# Altium footprint library 2108877_1.PcbLib: 1 footprints
Each footprint in its own frame and in the unit in brackets; x right, y up, seen from the top. Pads: shape width x height; smd on the part's side, far side on the other; paste and mask are expansions set on the pad; w line width, h text height; cw(c..) or ccw(c..) is an arc to the next point about the centre after c.
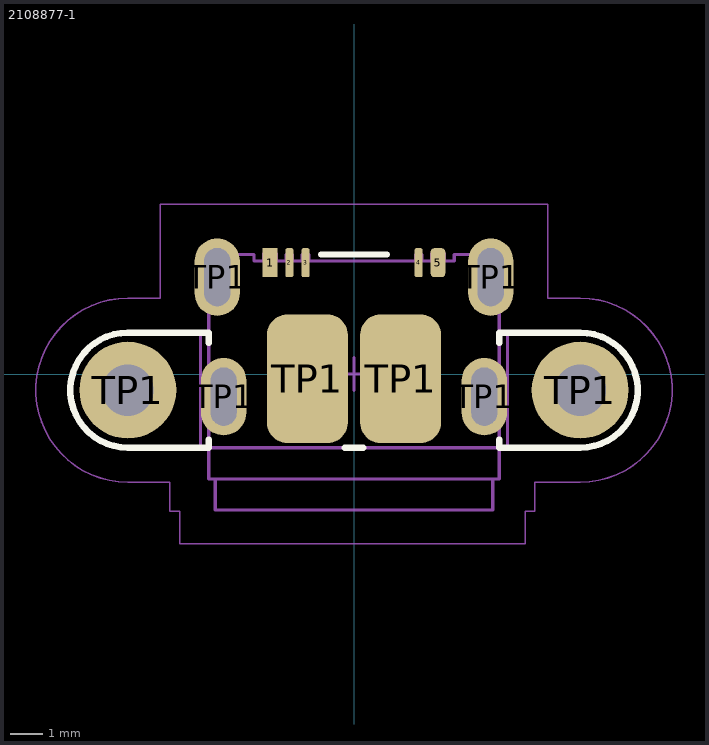
[diagram p0: the footprint, top view; thin cyan lines are the x and y axes]

## 2108877-1 [mm] "Micro USB 2.0 Type B R/A Type"
height 3.4
pads (13):
  rect 0.45x0.9 smd: 1(-2.6,3.446)
  rrect50% 0.25x0.9 smd: 2(-2,3.446) 3(-1.5,3.446) 4(2,3.446)
  rrect50% 0.45x0.9 smd: 5(2.6,3.446)
  round 3 hole 1.6: TP1(-7,-0.5) TP1(7,-0.5)
  oval 1.4x2.4 hole 0.8 slot 1.8 at 90 deg: TP1(-4.235,3) TP1(-4.035,-0.7) TP1(4.035,-0.7) TP1(4.235,3)
  rrect50% 2.5x3.98 smd: TP1(-1.441,-0.146) TP1(1.441,-0.146)
Top Overlay:
  lines w0.2: -4.496,-2.028 -4.496,-2.282 ; -4.496,0.96 -4.496,1.282 -7,1.282 ccw(c-7,-0.5) -7,-2.282 -4.496,-2.282 ; -1.016,3.7 0,3.7 1.016,3.7 ; -0.279,-2.282 0,-2.282 0.279,-2.282 ; 4.496,-2.028 4.496,-2.282 ; 4.496,0.96 4.496,1.282 7,1.282 cw(c7,-0.5) 7,-2.282 4.496,-2.282 ; -4.496,-2.282 -4.496,-2.282 ; 4.496,-2.282 4.496,-2.282
Mechanical 7:
  text ".Comment" at 1.097,5.43 h1.2
Top Designator:
  text ".Designator" at -0.3,5.43 h1.2
Top Component Outline:
  circle w0.1: c-7,-0.5 r0.8
  circle w0.1: c7,-0.5 r0.8
  lines w0.1: -4.75,-2.282 -4.75,1.282 ; -4.295,-3.247 -4.295,-4.212 4.295,-4.212 4.295,-3.247 ; -2.8,3.5 -2.8,3.725 -2.4,3.725 -2.4,3.5 ; -2.1,3.5 -2.1,3.7 -1.9,3.7 -1.9,3.5 ; -1.6,3.5 -1.6,3.7 -1.4,3.7 -1.4,3.5 ; 1.9,3.5 1.9,3.7 2.1,3.7 2.1,3.5 ; 2.4,3.5 2.4,3.725 2.8,3.725 2.8,3.5 ; 4.75,-2.282 4.75,1.282 ; -4.496,1.282 -4.496,-3.247 4.496,-3.247 4.496,1.282 ; -4.496,1.282 -4.496,3.7 -3.1,3.7 -3.1,3.5 0,3.5 3.1,3.5 3.1,3.7 4.496,3.7 4.496,1.282 ; -4.496,1.282 -7,1.282 ccw(c-7,-0.5) -7,-2.282 7,-2.282 ccw(c7,-0.5) 7,1.282 4.496,1.282 ; 4.496,-2.282 4.496,-2.282 ; 4.496,-2.282 4.496,-2.282
Top Courtyard:
  lines w0.05: -7,-3.35 cw(c-7,-0.5) -7,2.35 -6,2.35 -6,5.25 6,5.25 6,2.35 7,2.35 cw(c7,-0.5) 7,-3.35 5.6,-3.35 5.6,-4.25 5.3,-4.25 5.3,-5.25 -5.4,-5.25 -5.4,-4.25 -5.7,-4.25 -5.7,-3.35 -7,-3.35
  lines w0.1: -0.5,0 0.5,0 ; 0,-0.5 0,0.5
3D body "2108877-1-b-3d(micro usb-b flanged).stp": height 3.39, standoff -0.64, extent -8.9,-4.2 8.9,3.7